# EAGLE library part MIC2025-2 (library tccs_reader)
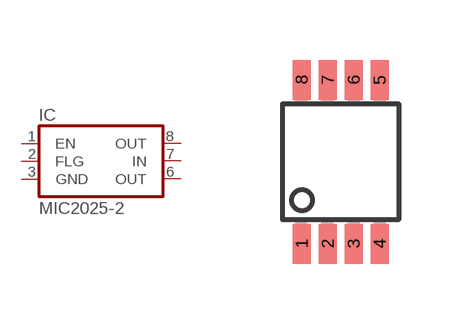
[diagram p7: symbol with the pads of MSOP8; footprint MSOP8]

Designator prefix IC

## MIC2025-2YMM  [MSOP8]
1  EN  in
2  FLG  out
3  GND  pwr
6  OUT  pwr
7  IN  pwr
8  OUT  pwr

## Footprint MSOP8 (pad centres in mm)
Micro Small Outline Package Grid .65mm
smd 0.45 x 1: 1 -0.975,-2.05; 2 -0.325,-2.05; 3 0.325,-2.05; 4 0.975,-2.05; 5 0.975,2.05; 6 0.325,2.05; 7 -0.325,2.05; 8 -0.975,2.05